# Altium schematic symbol library Quartz crystals.SchLib: 8 symbols
Pins are listed as number, name and electrical type; pins without a type are passive.

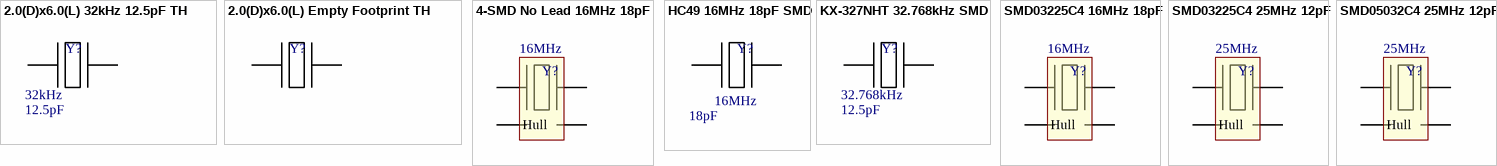
[diagram p0: symbols 2.0(D)x6.0(L) 32kHz 12.5pF TH to SMD05032C4 25MHz 12pF]

## 2.0(D)x6.0(L) 32kHz 12.5pF TH
designator Y?  Frequency: 32kHz  Load capacitance: 12.5pF  (hidden comment: 2.0(D)x6.0(L) 32kHz 12.5pF TH)
footprint Cyllindric Can
pins: 1, 2

## 2.0(D)x6.0(L) Empty Footprint TH
designator Y?  (value not drawn)
footprint Cyllindric Can
pins: 1, 2

## 4-SMD No Lead 16MHz 18pF
designator Y?  Frequency: 16MHz  (hidden comment: 4-SMD No Lead 16MHz 18pF)
4-SMD No Lead Quartz crystal; Load capacitance: 18pF
footprint 4-SMD No lead
pins: 1, 2 Hull, 3, 4 Hull

## HC49 16MHz 18pF SMD
designator Y?  Frequency: 16MHz  Load capacitance: 18pF  (hidden comment: HC49 16MHz 18pF SMD)
HC49SM SMT Quartz crystal; Supplier 1: Digi-Key; Supplier 2: Digi-Key; Supplier 3: Digi-Key; Supplier 4: Digi-Key; Supplier Part Number 1: 535-10226-6-ND; Supplier Part Number 2: 535-9875-6-ND; Supplier Part Number 3: 535-13436-6-ND; Supplier Part Number 4: 535-9071-6-ND
footprint HC49SM (HC49SM SMT footprint)
pins: 1, 2

## KX-327NHT 32.768kHz SMD
designator Y?  Frequency: 32.768kHz  Load capacitance: 12.5pF  (hidden comment: KX-327NHT 32.768kHz SMD)
footprint KX-327NHT (SMD Low-Freq Crystal)
pins: 1, 2

## SMD03225C4 16MHz 18pF
designator Y?  Frequency: 16MHz  (hidden comment: SMD03225C4 16MHz 18pF)
SMD03225C4 16MHz 18pF Quartz crystal; Load capacitance: 18pF
footprint LC-SMD-3225_4P
pins: 1, 2 Hull, 3, 4 Hull

## SMD03225C4 25MHz 12pF
designator Y?  Frequency: 25MHz  (hidden comment: SMD03225C4 25MHz 12pF)
SMD03225C4 25MHz 12pF Quartz crystal; Load capacitance: 12pF
footprint LC-SMD-3225_4P
pins: 1, 2 Hull, 3, 4 Hull

## SMD05032C4 25MHz 12pF
designator Y?  Frequency: 25MHz  (hidden comment: SMD05032C4 25MHz 12pF)
SMD05032C4 25MHz 12pF Quartz crystal; Load capacitance: 12pF
footprint LC-SMD-5032_4P
pins: 1, 2 Hull, 3, 4 Hull